# Altium schematic symbol library MPT-06-01-XX-X-RA-SD.SchLib: 1 symbol
Pins are listed as number, name and electrical type; pins without a type are passive.

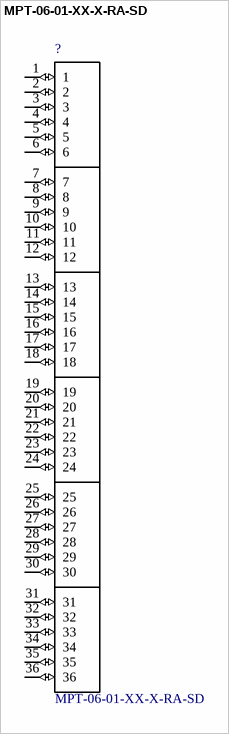
[diagram p0: symbol MPT-06-01-XX-X-RA-SD]

## MPT-06-01-XX-X-RA-SD
designator ?
/ MPT Series 5.00 mm PowerStripâ„¢/30 A Dual Blade Terminal Strip /; MP: MPT-06-01-01-L-RA-SD; MF: Samtec; Digi-Key_Part_Number: SAM9730-ND; SnapEDA_Link: https://www.snapeda.com/parts/MPT-06-01-01-L-RA-SD/Samtec%20Inc./view-part/?ref=snap; Digi-Key_Purchase_URL: https://www.digikey.ca/product-detail/en/samtec-inc/MPT-06-01-01-L-RA-SD/SAM9730-ND/6678467?utm_source=snapeda&utm_medium=aggregator&utm_campaign=symbol; Package: None; Value: *
footprint *MPT-06-01-XX-X-RA-SD
pins: 1 (io), 2 (io), 3 (io), 4 (io), 5 (io), 6 (io), 7 (io), 8 (io), 9 (io), 10 (io), 11 (io), 12 (io), 13 (io), 14 (io), 15 (io), 16 (io), 17 (io), 18 (io), 19 (io), 20 (io), 21 (io), 22 (io), 23 (io), 24 (io), 25 (io), 26 (io), 27 (io), 28 (io), 29 (io), 30 (io), 31 (io), 32 (io), 33 (io), 34 (io), 35 (io), 36 (io)